# Altium footprint library AMPHENOL RJHSE-5080.PcbLib: 1 footprints
Each footprint in its own frame and in the unit in brackets; x right, y up, seen from the top. Pads: shape width x height; smd on the part's side, far side on the other; paste and mask are expansions set on the pad; w line width, h text height; cw(c..) or ccw(c..) is an arc to the next point about the centre after c.
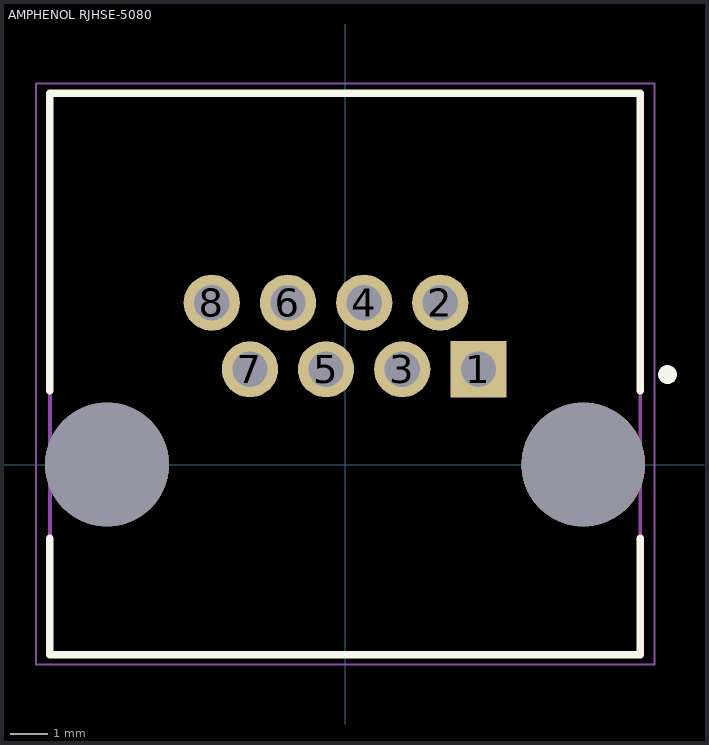
[diagram p0: the footprint, top view; thin cyan lines are the x and y axes]

## AMPHENOL RJHSE-5080 [mil]
height 523.62
pads (10):
  rect 59.06x59.06 hole 37 mask+2.95: 1(140,100)
  round 59.06 hole 37 mask+2.95: 2(100,170) 3(60,100) 4(20,170) 5(-20,100) 6(-60,170) 7(-100,100) 8(-140,170)
  round 130 hole 130 unplated: ""(-250,0) ""(250,0)
Top Overlay:
  circle w9.84: c338.58,94.49 r4.92
  lines w7.87: -310.04,-77.56 -310.04,-200 310.04,-200 310.04,-77.56 ; -310.04,77.56 -310.04,390.16 310.04,390.16 310.04,77.56
Top Assembly:
  lines w3.94: -310.04,-200 -310.04,390.16 310.04,390.16 310.04,-200 -310.04,-200
Top Courtyard:
  lines w1.97: -324.8,-209.84 -324.8,400 324.8,400 324.8,-209.84 -324.8,-209.84
Top Designator:
  text ".Designator" at -295.18,-19.68 h59.06
3D body "AMPHENOL_RJHSE-508.STEP": height 520, standoff -125, extent -310,-200.51 310,389.49